# Altium footprint library PotLibrary.PcbLib: 1 footprints
Each footprint in its own frame and in the unit in brackets; x right, y up, seen from the top. Pads: shape width x height; smd on the part's side, far side on the other; paste and mask are expansions set on the pad; w line width, h text height; cw(c..) or ccw(c..) is an arc to the next point about the centre after c.
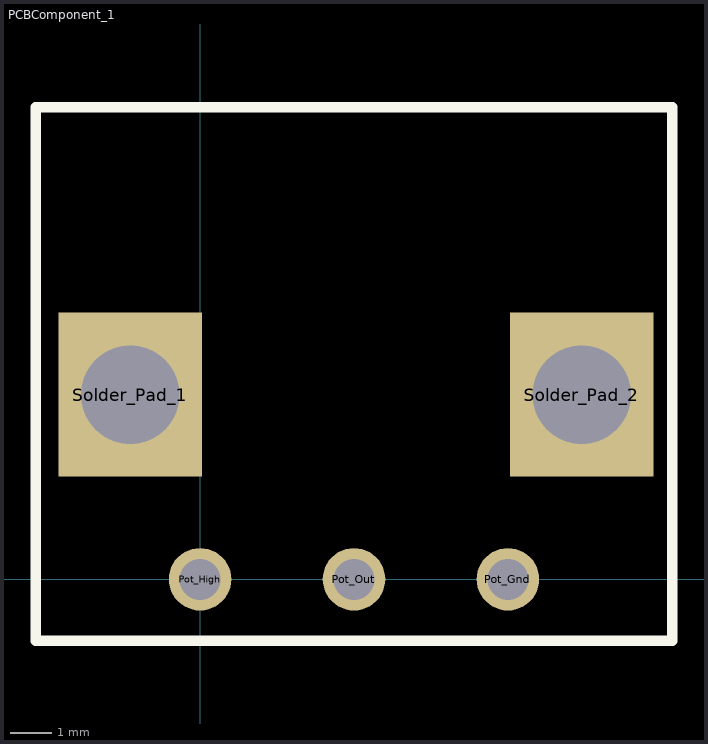
[diagram p0: the footprint, top view; thin cyan lines are the x and y axes]

## PCBComponent_1 [mm]
pads (5):
  round 1.524 hole 1: Pot_Gnd(7.5,0) Pot_High(0,0) Pot_Out(3.75,0)
  rect 3.5x4 hole 2.4 square: Solder_Pad_1(-1.7,4.5) Solder_Pad_2(9.3,4.5)
Top Overlay:
  lines w0.254: -4,-1.5 11.5,-1.5 11.5,11.5 -4,11.5 -4,-1.5